# Altium footprint library s13720.PcbLib: 1 footprints
Each footprint in its own frame and in the unit in brackets; x right, y up, seen from the top. Pads: shape width x height; smd on the part's side, far side on the other; paste and mask are expansions set on the pad; w line width, h text height; cw(c..) or ccw(c..) is an arc to the next point about the centre after c.
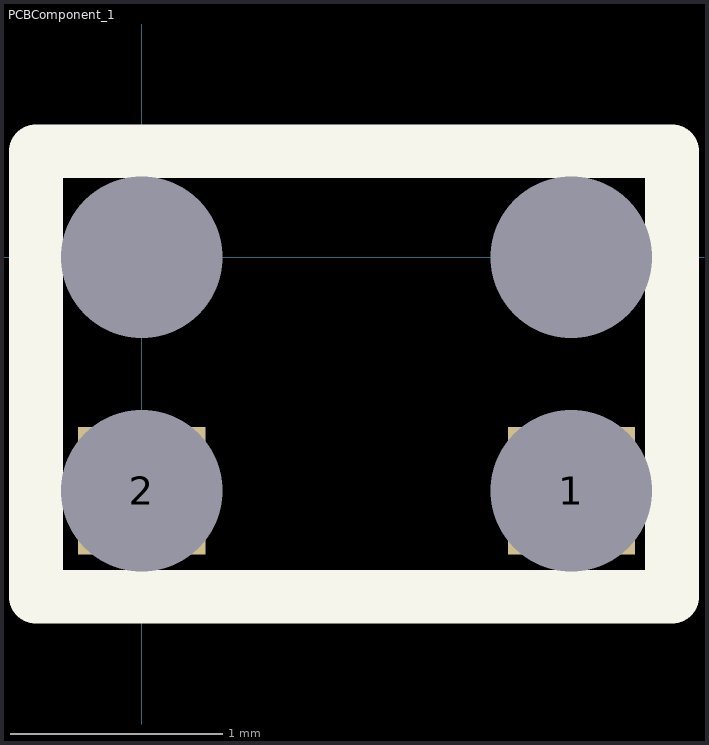
[diagram p0: the footprint, top view; thin cyan lines are the x and y axes]

## PCBComponent_1 [mm]
pads (4):
  rect 0.6x0.6 hole 0.762 square: 1(2.025,-1.1) 2(0,-1.1)
  rect 0.015x0.015 hole 0.762 square: 3(0,0) 4(2.025,0)
Top Overlay:
  lines w0.254: -0.5,-1.6 2.5,-1.6 2.5,0.5 -0.5,0.5 -0.5,-1.6